# Altium footprint library SSOP20_M.PcbLib: 1 footprints
Each footprint in its own frame and in the unit in brackets; x right, y up, seen from the top. Pads: shape width x height; smd on the part's side, far side on the other; paste and mask are expansions set on the pad; w line width, h text height; cw(c..) or ccw(c..) is an arc to the next point about the centre after c.
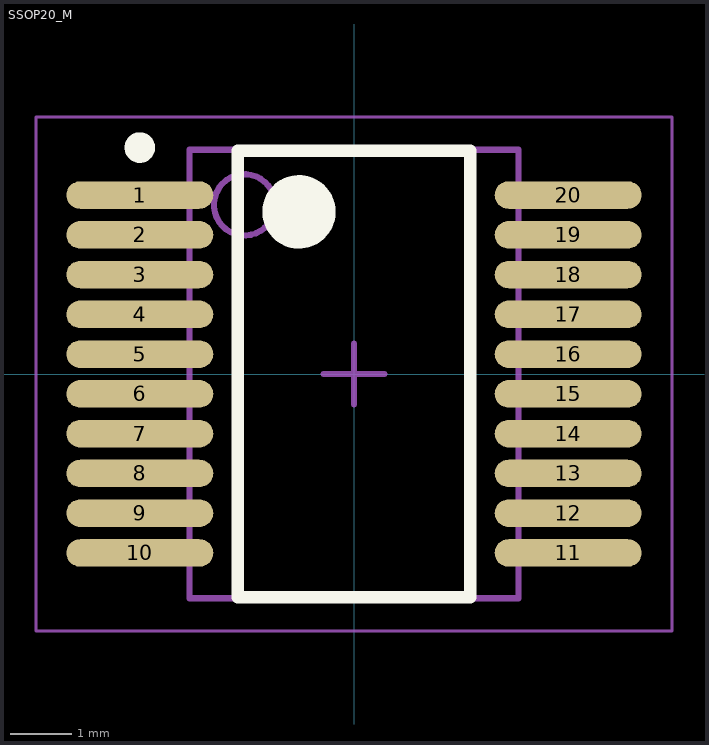
[diagram p0: the footprint, top view; thin cyan lines are the x and y axes]

## SSOP20_M [mm] "SOP, 20-Leads, Body 7.2x5.29mm, Pitch 0.65mm, IPC Low Density"
height 1.98
pads (20):
  oval 2.4x0.45 smd: 1(-3.5,2.925) 2(-3.5,2.275) 3(-3.5,1.625) 4(-3.5,0.975) 5(-3.5,0.325) 6(-3.5,-0.325) 7(-3.5,-0.975) 8(-3.5,-1.625) 9(-3.5,-2.275) 10(-3.5,-2.925) 11(3.5,-2.925) 12(3.5,-2.275) 13(3.5,-1.625) 14(3.5,-0.975) 15(3.5,-0.325) 16(3.5,0.325) 17(3.5,0.975) 18(3.5,1.625) 19(3.5,2.275) 20(3.5,2.925)
Top Overlay:
  circle w0.25: c-3.5,3.7 r0.125
  circle w0.6: c-0.9,2.65 r0.3
  lines w0.2: -1.9,-3.65 -1.9,3.65 1.9,3.65 1.9,-3.65 -1.9,-3.65
Mechanical 13:
  circle w0.1: c-1.79,2.765 r0.5
  lines w0.1: -2.69,-3.665 -2.69,3.665 2.69,3.665 2.69,-3.665 -2.69,-3.665
Mechanical 15:
  lines w0.05: -5.2,-4.2 -5.2,4.2 5.2,4.2 5.2,-4.2 -5.2,-4.2
  lines w0.1: -0.5,0 0.5,0 ; 0,-0.5 0,0.5
3D body: height 1.98, standoff 0.05, extent -2.69,-3.665 2.69,3.665